# Altium footprint library ERJ6EN_125mW.PcbLib: 3 footprints
Each footprint in its own frame and in the unit in brackets; x right, y up, seen from the top. Pads: shape width x height; smd on the part's side, far side on the other; paste and mask are expansions set on the pad; w line width, h text height; cw(c..) or ccw(c..) is an arc to the next point about the centre after c.
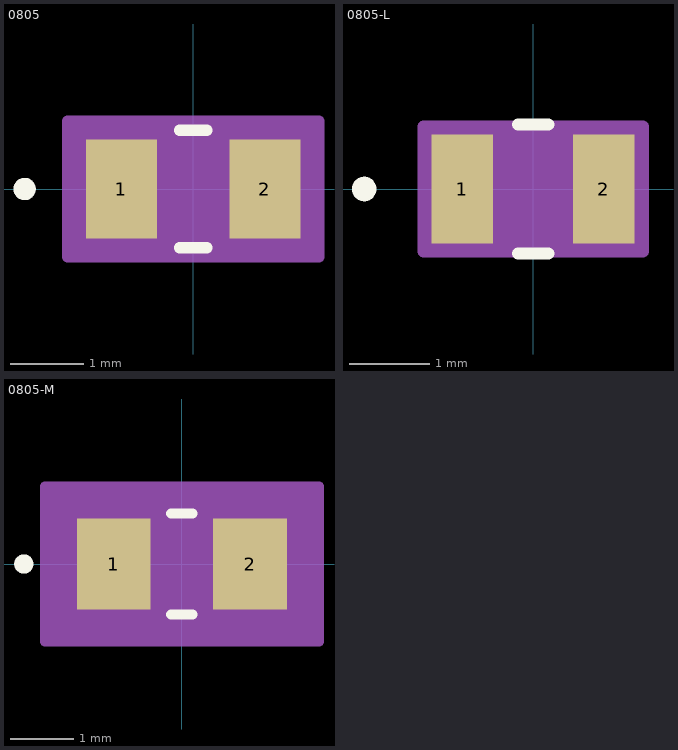
[diagram p0: the footprints below, top view; thin cyan lines are the x and y axes]

## 0805 [mil]
pads (2):
  rect 38x53 smd paste+0 mask+0: 1(-38.5,0) 2(38.5,0)
Top Overlay:
  circle w6: c-90.5,0 r3
  lines w6: -7.39,-31.5 7.39,-31.5 ; -7.39,31.5 7.39,31.5
Mechanical 13:
  circle w0: c-33.5,0 r3
  lines w1: -43.5,-26.5 -43.5,26.5 ; -43.5,-26.5 -19.5,-26.5 -19.5,26.5 -43.5,26.5 ; -43.5,-26.5 43.5,-26.5 ; -43.5,-26.5 -43.5,26.5 ; -43.5,26.5 43.5,26.5 ; 43.5,-26.5 19.5,-26.5 19.5,26.5 43.5,26.5 ; 43.5,-26.5 43.5,26.5 ; 43.5,-26.5 43.5,26.5
Mechanical 15:
  region: 67.5,-36.5 -67.5,-36.5 -67.5,36.5 67.5,36.5
  lines w6: -67.5,-36.5 -67.5,36.5 67.5,36.5 67.5,-36.5 -67.5,-36.5
3D body: height 10, standoff 0, extent 0,0 10,10

## 0805-L [mil]
pads (2):
  rect 30x53 smd paste+0 mask+0: 1(-34.5,0) 2(34.5,0)
Top Overlay:
  circle w6: c-82.5,0 r3
  lines w6: -7.39,-31.5 7.39,-31.5 ; -7.39,31.5 7.39,31.5
Mechanical 13:
  circle w0: c-33.5,0 r3
  lines w1: -43.5,-26.5 -43.5,26.5 ; -43.5,-26.5 -19.5,-26.5 -19.5,26.5 -43.5,26.5 ; -43.5,-26.5 43.5,-26.5 ; -43.5,-26.5 -43.5,26.5 ; -43.5,26.5 43.5,26.5 ; 43.5,-26.5 19.5,-26.5 19.5,26.5 43.5,26.5 ; 43.5,-26.5 43.5,26.5 ; 43.5,-26.5 43.5,26.5
Mechanical 15:
  region: 53.5,-30.5 -53.5,-30.5 -53.5,30.5 53.5,30.5
  lines w6: -53.5,-30.5 -53.5,30.5 53.5,30.5 53.5,-30.5 -53.5,-30.5
3D body: height 10, standoff 0, extent 0,0 10,10

## 0805-M [mil]
pads (2):
  rect 46x57 smd paste+0 mask+0: 1(-42.5,0) 2(42.5,0)
Top Overlay:
  circle w6: c-98.5,0 r3
  lines w6: -6.75,-31.5 6.75,-31.5 ; -6.75,31.5 6.75,31.5
Mechanical 13:
  circle w0: c-33.5,0 r3
  lines w1: -43.5,-26.5 -43.5,26.5 ; -43.5,-26.5 -19.5,-26.5 -19.5,26.5 -43.5,26.5 ; -43.5,-26.5 43.5,-26.5 ; -43.5,-26.5 -43.5,26.5 ; -43.5,26.5 43.5,26.5 ; 43.5,-26.5 19.5,-26.5 19.5,26.5 43.5,26.5 ; 43.5,-26.5 43.5,26.5 ; 43.5,-26.5 43.5,26.5
Mechanical 15:
  region: 85.5,-48.5 -85.5,-48.5 -85.5,48.5 85.5,48.5
  lines w6: -85.5,-48.5 -85.5,48.5 85.5,48.5 85.5,-48.5 -85.5,-48.5
3D body: height 10, standoff 0, extent 0,0 10,10